# Altium integrated library TI Converter CODEC Voice-Band.IntLib: 99 symbols (part 5 of 7)
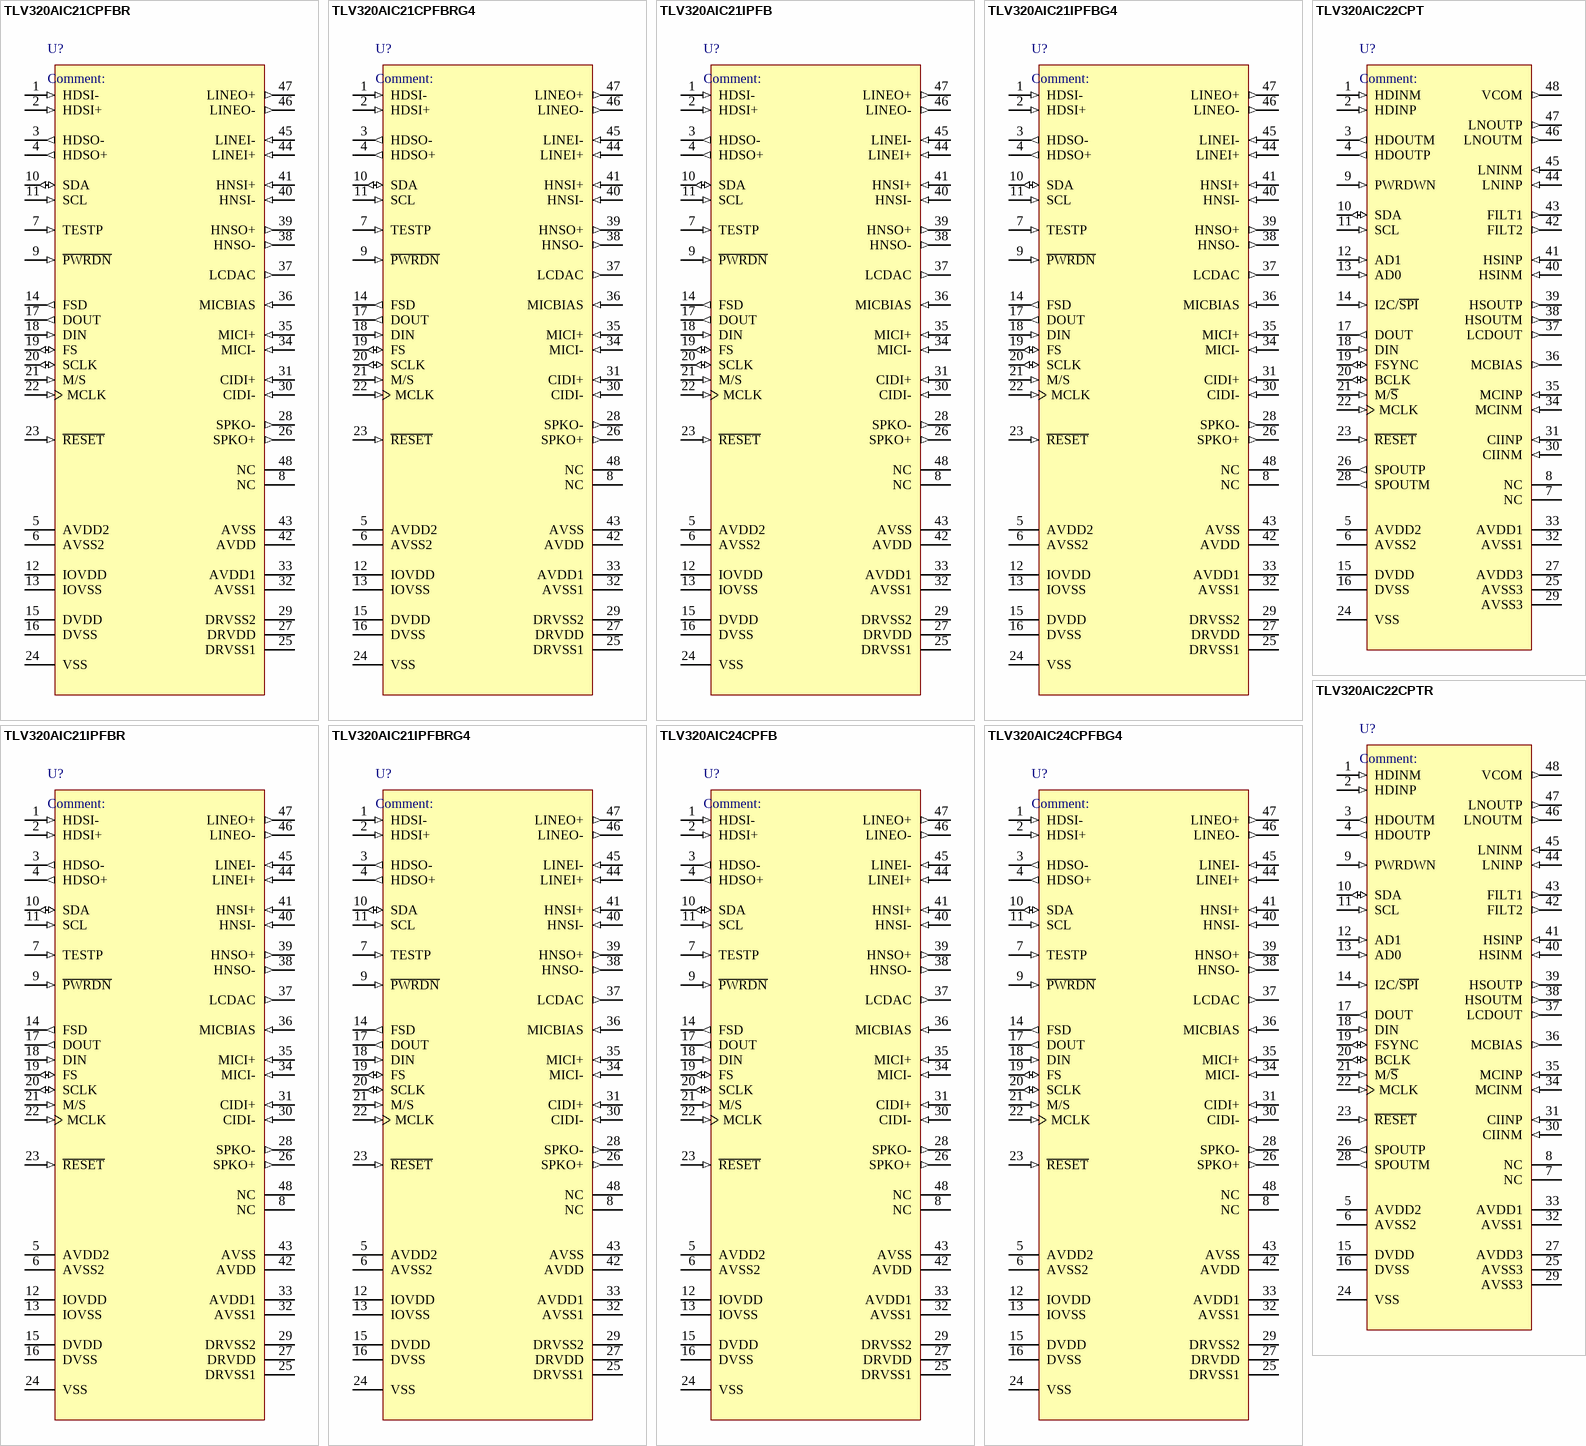
[diagram p13: symbols TLV320AIC21CPFBR to TLV320AIC24CPFBG4]

## TLV320AIC22CPT
designator U?
Dual Voice Over Internet Protocol (VoIP) CODEC, 48-Pin ?LQFP; Note: It is recommended that PCB design utilize separate analog & digital power supplies and separate analog & digital ground planes.; Note: Due to possible crosstalk, keep LNOUT & LNIN signals separated. Do not route LNOUT signals parallel to LNIN signals.; Published: 16-Dec-2005; LatestRevisionDate: 13-Apr-2006; LatestRevisionNote: IPC-7351 Footprint Added.; DatasheetVersion: 24-Jun-2005; PackageVersion: May-1997; PackageReference: PT48; Publisher: Altium Limited; PackageDescription: 48-Pin Thin Quad Flat Pack 0.5 mm Pitch; ComponentLink1Description: Manufacturer Link; ComponentLink1URL: http://www.ti.com/; ComponentLink2Description: Datasheet; ComponentLink2URL: http://focus.ti.com/lit/ds/symlink/tlv320aic22c.pdf
footprint PT48_N (Thin QFP, 48-Leads, Body 7x7mm, Pitch 0.5mm, IPC Medium Density)
footprint PT48_L (Thin QFP, 48-Leads, Body 7x7mm, Pitch 0.5mm, IPC High Density)
footprint PT48_M (Thin QFP, 48-Leads, Body 7x7mm, Pitch 0.5mm, IPC Low Density)
pins: 1 HDINM (in) "Headset amplifier analog inverting input.", 2 HDINP (in) "Headset amplifier analog noninverting input.", 3 HDOUTM (out) "Inverting headset output.", 4 HDOUTP (out) "Noninverting headset output.", 5 AVDD2 (power) "Analog power supply. Connect to AVDD1.", 6 AVSS2 (power) "Analog ground. Connect to AVSS1.", 7 NC "Reserved. Leave unconnected.", 8 NC "Reserved. Leave unconnected.", 9 PWRDWN (in) "Power down.", 10 SDA (io) "Bidirectional control data I/O line for the I2C interface.", 11 SCL (in) "Serial control interface clock for I2C interface & used to clock control bits into and out of the device through the SDA terminal.", 12 AD1 (in) "Address.", 13 AD0 (in) "Address.", 14 I2C/~{SPI} (in) "I2C/serial-port interface select.", 15 DVDD (power) "Digital power supply.", 16 DVSS (power) "Digital ground.", 17 DOUT (out) "Data output.", 18 DIN (in) "Data input.", 19 FSYNC (io) "Frame synchronization. FSYNC indicates the beginning of a frame and the start of time slot 0.", 20 BCLK (io) "Bit clock. BCLK clocks serial data into DIN and out of DOUT.", 21 M/~{S} (in) "Master/slave select input.", 22 MCLK (in) "Master clock input.", 23 ~{RESE}~{T} (in) "Codec device reset.", 24 VSS (power) "Internal substrate connection.", 25 AVSS3 (power) "Analog ground for 8 Ohm speaker driver.", 26 SPOUTP (out) "Inverting analog output from 8 Ohm speaker amplifier", 27 AVDD3 (power) "Analog power supply for 8 Ohm speaker driver.", 28 SPOUTM (out) "Noninverting analog output from 8 Ohm speaker amplifier", 29 AVSS3 (power) "Analog ground for 8 Ohm speaker driver.", 30 CIINM (in) "Caller ID amplifier analog inverting input", 31 CIINP (in) "Caller ID amplifier analog noninverting input", 32 AVSS1 (power) "Analog ground. Connect to AVSS2.", 33 AVDD1 (power) "Analog power supply. Connect to AVDD2.", 34 MCINM (in) "Microphone amplifier analog inverting input.", 35 MCINP (in) "Microphone amplifier analog noninverting input.", 36 MCBIAS (out) "MCBIAS provides a bias voltage and current to operate Electret microphones.", 37 LCDOUT (out) "4-bit DAC output voltage.", 38 HSOUTM (out) "Inverting handset output.", 39 HSOUTP (out) "Noninverting handset output.", 40 HSINM (in) "Handset amplifier analog inverting input.", 41 HSINP (in) "Handset amplifier analog noninverting input.", 42 FILT2 (out) "Reference filter node. FILT1 and FILT2 provide decoupling of the reference voltage. This reference is 0 V.", 43 FILT1 (out) "Reference filter node. FILT1 and FILT2 provide decoupling of the reference voltage. This reference is 2.25 V.", 44 LNINP (in) "Line-port amplifier analog noninverting input.", 45 LNINM (in) "Line-port amplifier analog inverting input.", 46 LNOUTM (out) "Inverting line-port output.", 47 LNOUTP (out) "Noninverting line-port output.", 48 VCOM (out) "VCOM provides a reference voltage of 1.5 V."

## TLV320AIC22CPTR
designator U?
Dual Voice Over Internet Protocol (VoIP) CODEC, 48-Pin ?LQFP; Note: It is recommended that PCB design utilize separate analog & digital power supplies and separate analog & digital ground planes.; Note: Due to possible crosstalk, keep LNOUT & LNIN signals separated. Do not route LNOUT signals parallel to LNIN signals.; Published: 16-Dec-2005; LatestRevisionDate: 13-Apr-2006; LatestRevisionNote: IPC-7351 Footprint Added.; DatasheetVersion: 24-Jun-2005; PackageVersion: May-1997; PackageReference: PT48; Publisher: Altium Limited; PackageDescription: 48-Pin Thin Quad Flat Pack 0.5 mm Pitch; ComponentLink1Description: Manufacturer Link; ComponentLink1URL: http://www.ti.com/; ComponentLink2Description: Datasheet; ComponentLink2URL: http://focus.ti.com/lit/ds/symlink/tlv320aic22c.pdf
footprint PT48_N (Thin QFP, 48-Leads, Body 7x7mm, Pitch 0.5mm, IPC Medium Density)
footprint PT48_L (Thin QFP, 48-Leads, Body 7x7mm, Pitch 0.5mm, IPC High Density)
footprint PT48_M (Thin QFP, 48-Leads, Body 7x7mm, Pitch 0.5mm, IPC Low Density)
pins: 1 HDINM (in) "Headset amplifier analog inverting input.", 2 HDINP (in) "Headset amplifier analog noninverting input.", 3 HDOUTM (out) "Inverting headset output.", 4 HDOUTP (out) "Noninverting headset output.", 5 AVDD2 (power) "Analog power supply. Connect to AVDD1.", 6 AVSS2 (power) "Analog ground. Connect to AVSS1.", 7 NC "Reserved. Leave unconnected.", 8 NC "Reserved. Leave unconnected.", 9 PWRDWN (in) "Power down.", 10 SDA (io) "Bidirectional control data I/O line for the I2C interface.", 11 SCL (in) "Serial control interface clock for I2C interface & used to clock control bits into and out of the device through the SDA terminal.", 12 AD1 (in) "Address.", 13 AD0 (in) "Address.", 14 I2C/~{SPI} (in) "I2C/serial-port interface select.", 15 DVDD (power) "Digital power supply.", 16 DVSS (power) "Digital ground.", 17 DOUT (out) "Data output.", 18 DIN (in) "Data input.", 19 FSYNC (io) "Frame synchronization. FSYNC indicates the beginning of a frame and the start of time slot 0.", 20 BCLK (io) "Bit clock. BCLK clocks serial data into DIN and out of DOUT.", 21 M/~{S} (in) "Master/slave select input.", 22 MCLK (in) "Master clock input.", 23 ~{RESE}~{T} (in) "Codec device reset.", 24 VSS (power) "Internal substrate connection.", 25 AVSS3 (power) "Analog ground for 8 Ohm speaker driver.", 26 SPOUTP (out) "Inverting analog output from 8 Ohm speaker amplifier", 27 AVDD3 (power) "Analog power supply for 8 Ohm speaker driver.", 28 SPOUTM (out) "Noninverting analog output from 8 Ohm speaker amplifier", 29 AVSS3 (power) "Analog ground for 8 Ohm speaker driver.", 30 CIINM (in) "Caller ID amplifier analog inverting input", 31 CIINP (in) "Caller ID amplifier analog noninverting input", 32 AVSS1 (power) "Analog ground. Connect to AVSS2.", 33 AVDD1 (power) "Analog power supply. Connect to AVDD2.", 34 MCINM (in) "Microphone amplifier analog inverting input.", 35 MCINP (in) "Microphone amplifier analog noninverting input.", 36 MCBIAS (out) "MCBIAS provides a bias voltage and current to operate Electret microphones.", 37 LCDOUT (out) "4-bit DAC output voltage.", 38 HSOUTM (out) "Inverting handset output.", 39 HSOUTP (out) "Noninverting handset output.", 40 HSINM (in) "Handset amplifier analog inverting input.", 41 HSINP (in) "Handset amplifier analog noninverting input.", 42 FILT2 (out) "Reference filter node. FILT1 and FILT2 provide decoupling of the reference voltage. This reference is 0 V.", 43 FILT1 (out) "Reference filter node. FILT1 and FILT2 provide decoupling of the reference voltage. This reference is 2.25 V.", 44 LNINP (in) "Line-port amplifier analog noninverting input.", 45 LNINM (in) "Line-port amplifier analog inverting input.", 46 LNOUTM (out) "Inverting line-port output.", 47 LNOUTP (out) "Noninverting line-port output.", 48 VCOM (out) "VCOM provides a reference voltage of 1.5 V."

## TLV320AIC24CPFB
designator U?
Low-Power, Highly-Integrated, Programmable 16-Bit, 26-KSPS Dual-Channel CODEC, 48-Pin TQFP, Commerical Grade; Published: 16-Dec-2005; LatestRevisionDate: 13-Apr-2006; LatestRevisionNote: IPC-7351 Footprint Added.; DatasheetVersion: 13-Sep-2005; PackageVersion: Jan-1998; PackageReference: PFB48; Publisher: Altium Limited; PackageDescription: 48-Pin Thin Plastic Quad Flat Pack 0.5 mm Pitch; Code_JEDEC: MS-026; ComponentLink1Description: Manufacturer Link; ComponentLink1URL: http://www.ti.com/; ComponentLink2Description: Datasheet; ComponentLink2URL: http://focus.ti.com/lit/ds/symlink/tlv320aic24.pdf
footprint PFB48_N (Thin QFP, 48-Leads, Body 7x7mm, Pitch 0.5mm, IPC Medium Density)
footprint PFB48_L (Thin QFP, 48-Leads, Body 7x7mm, Pitch 0.5mm, IPC High Density)
footprint PFB48_M (Thin QFP, 48-Leads, Body 7x7mm, Pitch 0.5mm, IPC Low Density)
pins: 1 HDSI- (in) "Head-set input. The Head-set input can be treated similar to the Line-input pins", 2 HDSI+ (in) "Head-set input. The Head-set input can be treated similar to the Line-input pins", 3 HDSO- (out) "150W output", 4 HDSO+ (out) "150W output", 5 AVDD2 (power) "Analog power supply", 6 AVSS2 (power) "Analog ground", 7 TESTP (in) "Test pin. Should be connected to digital ground.", 8 NC "Not connected", 9 ~{PWRDN} (in) "Power down", 10 SDA (io) "I2C/S2C data", 11 SCL (in) "I2C/S2C clock", 12 IOVDD (power) "I/O power supply", 13 IOVSS (power) "I/O ground", 14 FSD (out) "Frame sync delayed", 15 DVDD (power) "Digital supply (1.8 V)", 16 DVSS (power) "Digital ground", 17 DOUT (out) "Data OUT", 18 DIN (in) "Data IN", 19 FS (io) "Frame sync", 20 SCLK (io) "Serial clock", 21 M/S (in) "Master slave select applied to CODEC1 only. CODEC2 is always a slave.", 22 MCLK (in) "Master clock", 23 ~{RESET} (in) "Reset", 24 VSS (power) "Device ground. Typically this should be connected to the Analog Ground.", 25 DRVSS1 (power) "Driver ground", 26 SPKO+ (out) "8W output", 27 DRVDD (power) "Driver supply", 28 SPKO- (out) "8W output", 29 DRVSS2 (power) "Driver ground", 30 CIDI- (in) "Caller-ID input. The Caller-ID input can be treated similar to the Line-input pins", 31 CIDI+ (in) "Caller-ID input. The Caller-ID input can be treated similar to the Line-input pins", 32 AVSS1 (power) "Analog ground", 33 AVDD1 (power) "Analog supply", 34 MICI- (in) "Microphone input", 35 MICI+ (in) "Microphone input", 36 MICBIAS (in) "Microphone bias", 37 LCDAC (out) "6-Bit DAC output may be used to drive LCDAC", 38 HNSO- (out) "150-W output", 39 HNSO+ (out) "150-W output", 40 HNSI- (in) "Hand-set input. The Hand-set input can be treated similar to the Line-input pins", 41 HNSI+ (in) "Hand-set input. The Hand-set input can be treated similar to the Line-input pins", 42 AVDD (power) "Analog supply", 43 AVSS (power) "Analog ground", 44 LINEI+ (in) "Line input", 45 LINEI- (in) "Line input", 46 LINEO- (out) "600W output", 47 LINEO+ (out) "600W output", 48 NC "Not connected"

## TLV320AIC24CPFBG4
designator U?
Low-Power, Highly-Integrated, Programmable 16-Bit, 26-KSPS Dual-Channel CODEC, 48-Pin TQFP, Commerical Grade; Published: 16-Dec-2005; LatestRevisionDate: 13-Apr-2006; LatestRevisionNote: IPC-7351 Footprint Added.; DatasheetVersion: 13-Sep-2005; PackageVersion: Jan-1998; PackageReference: PFB48; Publisher: Altium Limited; PackageDescription: 48-Pin Thin Plastic Quad Flat Pack 0.5 mm Pitch; Code_JEDEC: MS-026; ComponentLink1Description: Manufacturer Link; ComponentLink1URL: http://www.ti.com/; ComponentLink2Description: Datasheet; ComponentLink2URL: http://focus.ti.com/lit/ds/symlink/tlv320aic24.pdf
footprint PFB48_N (Thin QFP, 48-Leads, Body 7x7mm, Pitch 0.5mm, IPC Medium Density)
footprint PFB48_L (Thin QFP, 48-Leads, Body 7x7mm, Pitch 0.5mm, IPC High Density)
footprint PFB48_M (Thin QFP, 48-Leads, Body 7x7mm, Pitch 0.5mm, IPC Low Density)
pins: 1 HDSI- (in) "Head-set input. The Head-set input can be treated similar to the Line-input pins", 2 HDSI+ (in) "Head-set input. The Head-set input can be treated similar to the Line-input pins", 3 HDSO- (out) "150W output", 4 HDSO+ (out) "150W output", 5 AVDD2 (power) "Analog power supply", 6 AVSS2 (power) "Analog ground", 7 TESTP (in) "Test pin. Should be connected to digital ground.", 8 NC "Not connected", 9 ~{PWRDN} (in) "Power down", 10 SDA (io) "I2C/S2C data", 11 SCL (in) "I2C/S2C clock", 12 IOVDD (power) "I/O power supply", 13 IOVSS (power) "I/O ground", 14 FSD (out) "Frame sync delayed", 15 DVDD (power) "Digital supply (1.8 V)", 16 DVSS (power) "Digital ground", 17 DOUT (out) "Data OUT", 18 DIN (in) "Data IN", 19 FS (io) "Frame sync", 20 SCLK (io) "Serial clock", 21 M/S (in) "Master slave select applied to CODEC1 only. CODEC2 is always a slave.", 22 MCLK (in) "Master clock", 23 ~{RESET} (in) "Reset", 24 VSS (power) "Device ground. Typically this should be connected to the Analog Ground.", 25 DRVSS1 (power) "Driver ground", 26 SPKO+ (out) "8W output", 27 DRVDD (power) "Driver supply", 28 SPKO- (out) "8W output", 29 DRVSS2 (power) "Driver ground", 30 CIDI- (in) "Caller-ID input. The Caller-ID input can be treated similar to the Line-input pins", 31 CIDI+ (in) "Caller-ID input. The Caller-ID input can be treated similar to the Line-input pins", 32 AVSS1 (power) "Analog ground", 33 AVDD1 (power) "Analog supply", 34 MICI- (in) "Microphone input", 35 MICI+ (in) "Microphone input", 36 MICBIAS (in) "Microphone bias", 37 LCDAC (out) "6-Bit DAC output may be used to drive LCDAC", 38 HNSO- (out) "150-W output", 39 HNSO+ (out) "150-W output", 40 HNSI- (in) "Hand-set input. The Hand-set input can be treated similar to the Line-input pins", 41 HNSI+ (in) "Hand-set input. The Hand-set input can be treated similar to the Line-input pins", 42 AVDD (power) "Analog supply", 43 AVSS (power) "Analog ground", 44 LINEI+ (in) "Line input", 45 LINEI- (in) "Line input", 46 LINEO- (out) "600W output", 47 LINEO+ (out) "600W output", 48 NC "Not connected"

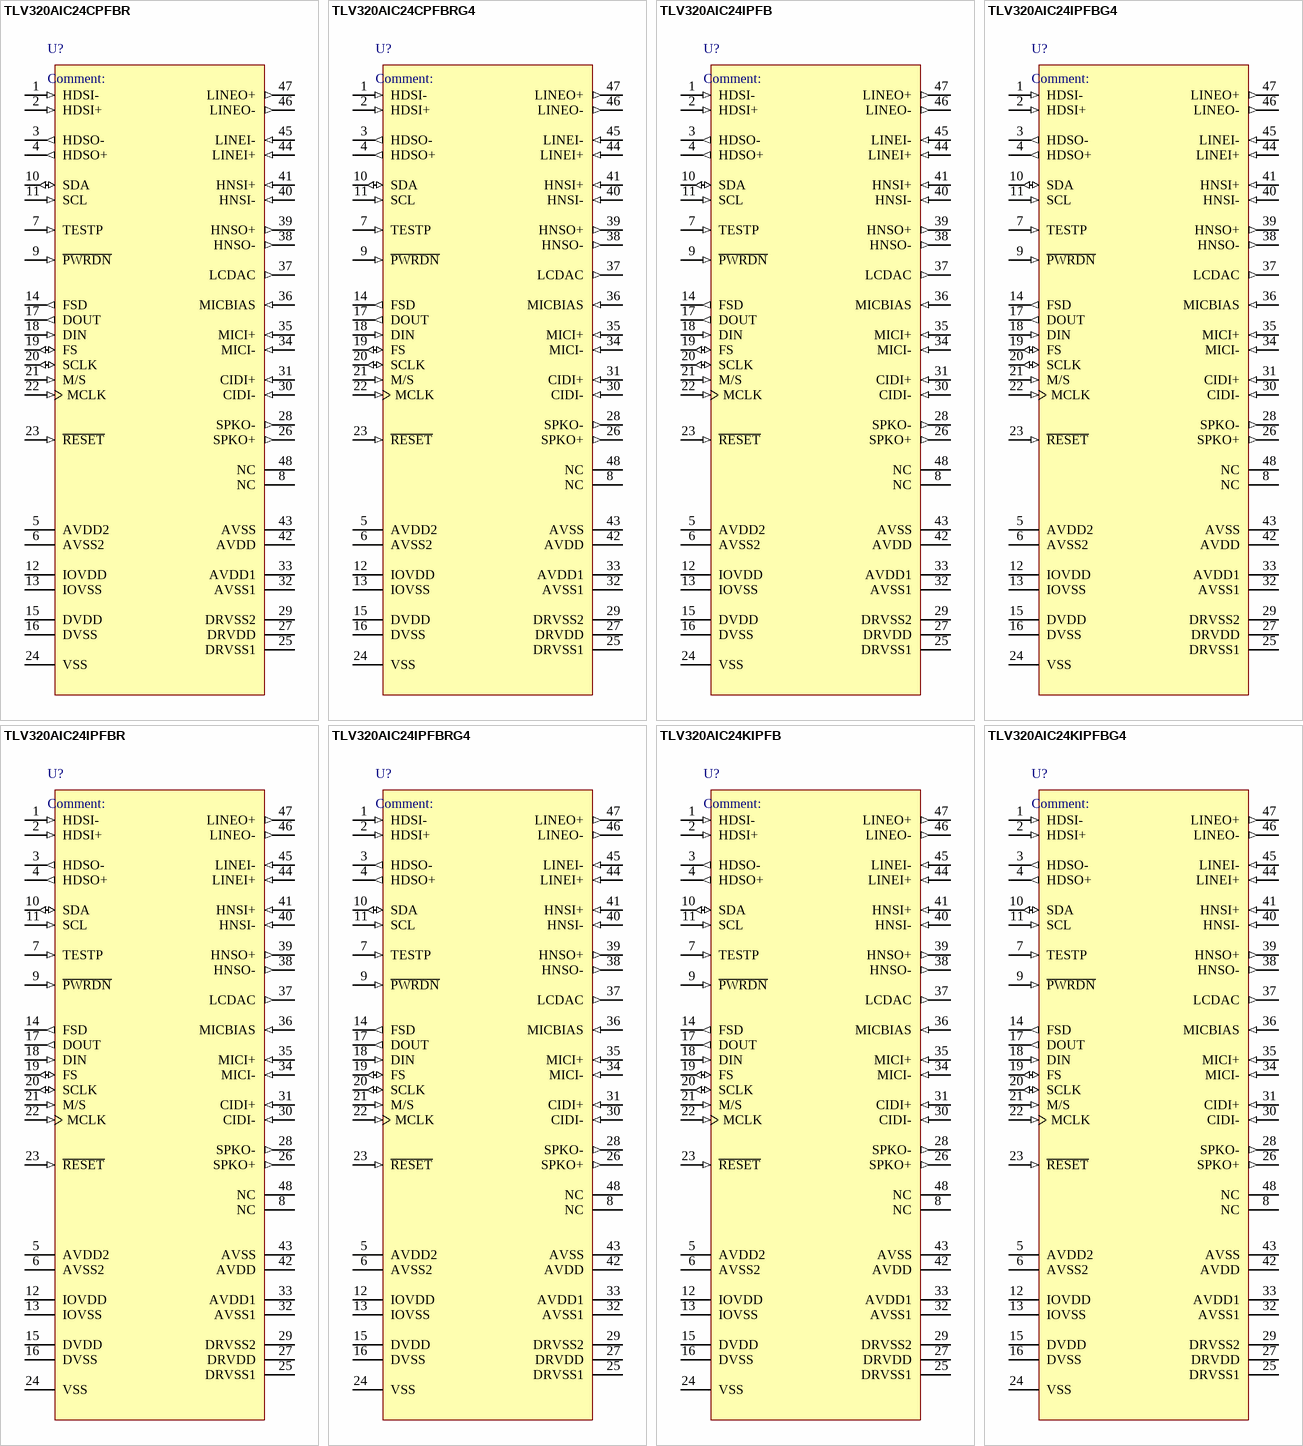
[diagram p6: symbols TLV320AIC24CPFBR to TLV320AIC24KIPFBG4]

## TLV320AIC24CPFBR
designator U?
Low-Power, Highly-Integrated, Programmable 16-Bit, 26-KSPS Dual-Channel CODEC, 48-Pin TQFP, Commerical Grade; Published: 16-Dec-2005; LatestRevisionDate: 13-Apr-2006; LatestRevisionNote: IPC-7351 Footprint Added.; DatasheetVersion: 13-Sep-2005; PackageVersion: Jan-1998; PackageReference: PFB48; Publisher: Altium Limited; PackageDescription: 48-Pin Thin Plastic Quad Flat Pack 0.5 mm Pitch; Code_JEDEC: MS-026; ComponentLink1Description: Manufacturer Link; ComponentLink1URL: http://www.ti.com/; ComponentLink2Description: Datasheet; ComponentLink2URL: http://focus.ti.com/lit/ds/symlink/tlv320aic24.pdf
footprint PFB48_N (Thin QFP, 48-Leads, Body 7x7mm, Pitch 0.5mm, IPC Medium Density)
footprint PFB48_L (Thin QFP, 48-Leads, Body 7x7mm, Pitch 0.5mm, IPC High Density)
footprint PFB48_M (Thin QFP, 48-Leads, Body 7x7mm, Pitch 0.5mm, IPC Low Density)
pins: 1 HDSI- (in) "Head-set input. The Head-set input can be treated similar to the Line-input pins", 2 HDSI+ (in) "Head-set input. The Head-set input can be treated similar to the Line-input pins", 3 HDSO- (out) "150W output", 4 HDSO+ (out) "150W output", 5 AVDD2 (power) "Analog power supply", 6 AVSS2 (power) "Analog ground", 7 TESTP (in) "Test pin. Should be connected to digital ground.", 8 NC "Not connected", 9 ~{PWRDN} (in) "Power down", 10 SDA (io) "I2C/S2C data", 11 SCL (in) "I2C/S2C clock", 12 IOVDD (power) "I/O power supply", 13 IOVSS (power) "I/O ground", 14 FSD (out) "Frame sync delayed", 15 DVDD (power) "Digital supply (1.8 V)", 16 DVSS (power) "Digital ground", 17 DOUT (out) "Data OUT", 18 DIN (in) "Data IN", 19 FS (io) "Frame sync", 20 SCLK (io) "Serial clock", 21 M/S (in) "Master slave select applied to CODEC1 only. CODEC2 is always a slave.", 22 MCLK (in) "Master clock", 23 ~{RESET} (in) "Reset", 24 VSS (power) "Device ground. Typically this should be connected to the Analog Ground.", 25 DRVSS1 (power) "Driver ground", 26 SPKO+ (out) "8W output", 27 DRVDD (power) "Driver supply", 28 SPKO- (out) "8W output", 29 DRVSS2 (power) "Driver ground", 30 CIDI- (in) "Caller-ID input. The Caller-ID input can be treated similar to the Line-input pins", 31 CIDI+ (in) "Caller-ID input. The Caller-ID input can be treated similar to the Line-input pins", 32 AVSS1 (power) "Analog ground", 33 AVDD1 (power) "Analog supply", 34 MICI- (in) "Microphone input", 35 MICI+ (in) "Microphone input", 36 MICBIAS (in) "Microphone bias", 37 LCDAC (out) "6-Bit DAC output may be used to drive LCDAC", 38 HNSO- (out) "150-W output", 39 HNSO+ (out) "150-W output", 40 HNSI- (in) "Hand-set input. The Hand-set input can be treated similar to the Line-input pins", 41 HNSI+ (in) "Hand-set input. The Hand-set input can be treated similar to the Line-input pins", 42 AVDD (power) "Analog supply", 43 AVSS (power) "Analog ground", 44 LINEI+ (in) "Line input", 45 LINEI- (in) "Line input", 46 LINEO- (out) "600W output", 47 LINEO+ (out) "600W output", 48 NC "Not connected"

## TLV320AIC24CPFBRG4
designator U?
Low-Power, Highly-Integrated, Programmable 16-Bit, 26-KSPS Dual-Channel CODEC, 48-Pin TQFP, Commerical Grade; Published: 16-Dec-2005; LatestRevisionDate: 13-Apr-2006; LatestRevisionNote: IPC-7351 Footprint Added.; DatasheetVersion: 13-Sep-2005; PackageVersion: Jan-1998; PackageReference: PFB48; Publisher: Altium Limited; PackageDescription: 48-Pin Thin Plastic Quad Flat Pack 0.5 mm Pitch; Code_JEDEC: MS-026; ComponentLink1Description: Manufacturer Link; ComponentLink1URL: http://www.ti.com/; ComponentLink2Description: Datasheet; ComponentLink2URL: http://focus.ti.com/lit/ds/symlink/tlv320aic24.pdf
footprint PFB48_N (Thin QFP, 48-Leads, Body 7x7mm, Pitch 0.5mm, IPC Medium Density)
footprint PFB48_L (Thin QFP, 48-Leads, Body 7x7mm, Pitch 0.5mm, IPC High Density)
footprint PFB48_M (Thin QFP, 48-Leads, Body 7x7mm, Pitch 0.5mm, IPC Low Density)
pins: 1 HDSI- (in) "Head-set input. The Head-set input can be treated similar to the Line-input pins", 2 HDSI+ (in) "Head-set input. The Head-set input can be treated similar to the Line-input pins", 3 HDSO- (out) "150W output", 4 HDSO+ (out) "150W output", 5 AVDD2 (power) "Analog power supply", 6 AVSS2 (power) "Analog ground", 7 TESTP (in) "Test pin. Should be connected to digital ground.", 8 NC "Not connected", 9 ~{PWRDN} (in) "Power down", 10 SDA (io) "I2C/S2C data", 11 SCL (in) "I2C/S2C clock", 12 IOVDD (power) "I/O power supply", 13 IOVSS (power) "I/O ground", 14 FSD (out) "Frame sync delayed", 15 DVDD (power) "Digital supply (1.8 V)", 16 DVSS (power) "Digital ground", 17 DOUT (out) "Data OUT", 18 DIN (in) "Data IN", 19 FS (io) "Frame sync", 20 SCLK (io) "Serial clock", 21 M/S (in) "Master slave select applied to CODEC1 only. CODEC2 is always a slave.", 22 MCLK (in) "Master clock", 23 ~{RESET} (in) "Reset", 24 VSS (power) "Device ground. Typically this should be connected to the Analog Ground.", 25 DRVSS1 (power) "Driver ground", 26 SPKO+ (out) "8W output", 27 DRVDD (power) "Driver supply", 28 SPKO- (out) "8W output", 29 DRVSS2 (power) "Driver ground", 30 CIDI- (in) "Caller-ID input. The Caller-ID input can be treated similar to the Line-input pins", 31 CIDI+ (in) "Caller-ID input. The Caller-ID input can be treated similar to the Line-input pins", 32 AVSS1 (power) "Analog ground", 33 AVDD1 (power) "Analog supply", 34 MICI- (in) "Microphone input", 35 MICI+ (in) "Microphone input", 36 MICBIAS (in) "Microphone bias", 37 LCDAC (out) "6-Bit DAC output may be used to drive LCDAC", 38 HNSO- (out) "150-W output", 39 HNSO+ (out) "150-W output", 40 HNSI- (in) "Hand-set input. The Hand-set input can be treated similar to the Line-input pins", 41 HNSI+ (in) "Hand-set input. The Hand-set input can be treated similar to the Line-input pins", 42 AVDD (power) "Analog supply", 43 AVSS (power) "Analog ground", 44 LINEI+ (in) "Line input", 45 LINEI- (in) "Line input", 46 LINEO- (out) "600W output", 47 LINEO+ (out) "600W output", 48 NC "Not connected"

## TLV320AIC24IPFB
designator U?
Low-Power, Highly-Integrated, Programmable 16-Bit, 26-KSPS Dual-Channel CODEC, 48-Pin TQFP, Industrial Grade; Published: 16-Dec-2005; LatestRevisionDate: 13-Apr-2006; LatestRevisionNote: IPC-7351 Footprint Added.; DatasheetVersion: 13-Sep-2005; PackageVersion: Jan-1998; PackageReference: PFB48; Publisher: Altium Limited; PackageDescription: 48-Pin Thin Plastic Quad Flat Pack 0.5 mm Pitch; Code_JEDEC: MS-026; ComponentLink1Description: Manufacturer Link; ComponentLink1URL: http://www.ti.com/; ComponentLink2Description: Datasheet; ComponentLink2URL: http://focus.ti.com/lit/ds/symlink/tlv320aic24.pdf
footprint PFB48_N (Thin QFP, 48-Leads, Body 7x7mm, Pitch 0.5mm, IPC Medium Density)
footprint PFB48_L (Thin QFP, 48-Leads, Body 7x7mm, Pitch 0.5mm, IPC High Density)
footprint PFB48_M (Thin QFP, 48-Leads, Body 7x7mm, Pitch 0.5mm, IPC Low Density)
pins: 1 HDSI- (in) "Head-set input. The Head-set input can be treated similar to the Line-input pins", 2 HDSI+ (in) "Head-set input. The Head-set input can be treated similar to the Line-input pins", 3 HDSO- (out) "150W output", 4 HDSO+ (out) "150W output", 5 AVDD2 (power) "Analog power supply", 6 AVSS2 (power) "Analog ground", 7 TESTP (in) "Test pin. Should be connected to digital ground.", 8 NC "Not connected", 9 ~{PWRDN} (in) "Power down", 10 SDA (io) "I2C/S2C data", 11 SCL (in) "I2C/S2C clock", 12 IOVDD (power) "I/O power supply", 13 IOVSS (power) "I/O ground", 14 FSD (out) "Frame sync delayed", 15 DVDD (power) "Digital supply (1.8 V)", 16 DVSS (power) "Digital ground", 17 DOUT (out) "Data OUT", 18 DIN (in) "Data IN", 19 FS (io) "Frame sync", 20 SCLK (io) "Serial clock", 21 M/S (in) "Master slave select applied to CODEC1 only. CODEC2 is always a slave.", 22 MCLK (in) "Master clock", 23 ~{RESET} (in) "Reset", 24 VSS (power) "Device ground. Typically this should be connected to the Analog Ground.", 25 DRVSS1 (power) "Driver ground", 26 SPKO+ (out) "8W output", 27 DRVDD (power) "Driver supply", 28 SPKO- (out) "8W output", 29 DRVSS2 (power) "Driver ground", 30 CIDI- (in) "Caller-ID input. The Caller-ID input can be treated similar to the Line-input pins", 31 CIDI+ (in) "Caller-ID input. The Caller-ID input can be treated similar to the Line-input pins", 32 AVSS1 (power) "Analog ground", 33 AVDD1 (power) "Analog supply", 34 MICI- (in) "Microphone input", 35 MICI+ (in) "Microphone input", 36 MICBIAS (in) "Microphone bias", 37 LCDAC (out) "6-Bit DAC output may be used to drive LCDAC", 38 HNSO- (out) "150-W output", 39 HNSO+ (out) "150-W output", 40 HNSI- (in) "Hand-set input. The Hand-set input can be treated similar to the Line-input pins", 41 HNSI+ (in) "Hand-set input. The Hand-set input can be treated similar to the Line-input pins", 42 AVDD (power) "Analog supply", 43 AVSS (power) "Analog ground", 44 LINEI+ (in) "Line input", 45 LINEI- (in) "Line input", 46 LINEO- (out) "600W output", 47 LINEO+ (out) "600W output", 48 NC "Not connected"

## TLV320AIC24IPFBG4
designator U?
Low-Power, Highly-Integrated, Programmable 16-Bit, 26-KSPS Dual-Channel CODEC, 48-Pin TQFP, Industrial Grade; Published: 16-Dec-2005; LatestRevisionDate: 13-Apr-2006; LatestRevisionNote: IPC-7351 Footprint Added.; DatasheetVersion: 13-Sep-2005; PackageVersion: Jan-1998; PackageReference: PFB48; Publisher: Altium Limited; PackageDescription: 48-Pin Thin Plastic Quad Flat Pack 0.5 mm Pitch; Code_JEDEC: MS-026; ComponentLink1Description: Manufacturer Link; ComponentLink1URL: http://www.ti.com/; ComponentLink2Description: Datasheet; ComponentLink2URL: http://focus.ti.com/lit/ds/symlink/tlv320aic24.pdf
footprint PFB48_N (Thin QFP, 48-Leads, Body 7x7mm, Pitch 0.5mm, IPC Medium Density)
footprint PFB48_L (Thin QFP, 48-Leads, Body 7x7mm, Pitch 0.5mm, IPC High Density)
footprint PFB48_M (Thin QFP, 48-Leads, Body 7x7mm, Pitch 0.5mm, IPC Low Density)
pins: 1 HDSI- (in) "Head-set input. The Head-set input can be treated similar to the Line-input pins", 2 HDSI+ (in) "Head-set input. The Head-set input can be treated similar to the Line-input pins", 3 HDSO- (out) "150W output", 4 HDSO+ (out) "150W output", 5 AVDD2 (power) "Analog power supply", 6 AVSS2 (power) "Analog ground", 7 TESTP (in) "Test pin. Should be connected to digital ground.", 8 NC "Not connected", 9 ~{PWRDN} (in) "Power down", 10 SDA (io) "I2C/S2C data", 11 SCL (in) "I2C/S2C clock", 12 IOVDD (power) "I/O power supply", 13 IOVSS (power) "I/O ground", 14 FSD (out) "Frame sync delayed", 15 DVDD (power) "Digital supply (1.8 V)", 16 DVSS (power) "Digital ground", 17 DOUT (out) "Data OUT", 18 DIN (in) "Data IN", 19 FS (io) "Frame sync", 20 SCLK (io) "Serial clock", 21 M/S (in) "Master slave select applied to CODEC1 only. CODEC2 is always a slave.", 22 MCLK (in) "Master clock", 23 ~{RESET} (in) "Reset", 24 VSS (power) "Device ground. Typically this should be connected to the Analog Ground.", 25 DRVSS1 (power) "Driver ground", 26 SPKO+ (out) "8W output", 27 DRVDD (power) "Driver supply", 28 SPKO- (out) "8W output", 29 DRVSS2 (power) "Driver ground", 30 CIDI- (in) "Caller-ID input. The Caller-ID input can be treated similar to the Line-input pins", 31 CIDI+ (in) "Caller-ID input. The Caller-ID input can be treated similar to the Line-input pins", 32 AVSS1 (power) "Analog ground", 33 AVDD1 (power) "Analog supply", 34 MICI- (in) "Microphone input", 35 MICI+ (in) "Microphone input", 36 MICBIAS (in) "Microphone bias", 37 LCDAC (out) "6-Bit DAC output may be used to drive LCDAC", 38 HNSO- (out) "150-W output", 39 HNSO+ (out) "150-W output", 40 HNSI- (in) "Hand-set input. The Hand-set input can be treated similar to the Line-input pins", 41 HNSI+ (in) "Hand-set input. The Hand-set input can be treated similar to the Line-input pins", 42 AVDD (power) "Analog supply", 43 AVSS (power) "Analog ground", 44 LINEI+ (in) "Line input", 45 LINEI- (in) "Line input", 46 LINEO- (out) "600W output", 47 LINEO+ (out) "600W output", 48 NC "Not connected"

## TLV320AIC24IPFBR
designator U?
Low-Power, Highly-Integrated, Programmable 16-Bit, 26-KSPS Dual-Channel CODEC, 48-Pin TQFP, Industrial Grade; Published: 16-Dec-2005; LatestRevisionDate: 13-Apr-2006; LatestRevisionNote: IPC-7351 Footprint Added.; DatasheetVersion: 13-Sep-2005; PackageVersion: Jan-1998; PackageReference: PFB48; Publisher: Altium Limited; PackageDescription: 48-Pin Thin Plastic Quad Flat Pack 0.5 mm Pitch; Code_JEDEC: MS-026; ComponentLink1Description: Manufacturer Link; ComponentLink1URL: http://www.ti.com/; ComponentLink2Description: Datasheet; ComponentLink2URL: http://focus.ti.com/lit/ds/symlink/tlv320aic24.pdf
footprint PFB48_N (Thin QFP, 48-Leads, Body 7x7mm, Pitch 0.5mm, IPC Medium Density)
footprint PFB48_L (Thin QFP, 48-Leads, Body 7x7mm, Pitch 0.5mm, IPC High Density)
footprint PFB48_M (Thin QFP, 48-Leads, Body 7x7mm, Pitch 0.5mm, IPC Low Density)
pins: 1 HDSI- (in) "Head-set input. The Head-set input can be treated similar to the Line-input pins", 2 HDSI+ (in) "Head-set input. The Head-set input can be treated similar to the Line-input pins", 3 HDSO- (out) "150W output", 4 HDSO+ (out) "150W output", 5 AVDD2 (power) "Analog power supply", 6 AVSS2 (power) "Analog ground", 7 TESTP (in) "Test pin. Should be connected to digital ground.", 8 NC "Not connected", 9 ~{PWRDN} (in) "Power down", 10 SDA (io) "I2C/S2C data", 11 SCL (in) "I2C/S2C clock", 12 IOVDD (power) "I/O power supply", 13 IOVSS (power) "I/O ground", 14 FSD (out) "Frame sync delayed", 15 DVDD (power) "Digital supply (1.8 V)", 16 DVSS (power) "Digital ground", 17 DOUT (out) "Data OUT", 18 DIN (in) "Data IN", 19 FS (io) "Frame sync", 20 SCLK (io) "Serial clock", 21 M/S (in) "Master slave select applied to CODEC1 only. CODEC2 is always a slave.", 22 MCLK (in) "Master clock", 23 ~{RESET} (in) "Reset", 24 VSS (power) "Device ground. Typically this should be connected to the Analog Ground.", 25 DRVSS1 (power) "Driver ground", 26 SPKO+ (out) "8W output", 27 DRVDD (power) "Driver supply", 28 SPKO- (out) "8W output", 29 DRVSS2 (power) "Driver ground", 30 CIDI- (in) "Caller-ID input. The Caller-ID input can be treated similar to the Line-input pins", 31 CIDI+ (in) "Caller-ID input. The Caller-ID input can be treated similar to the Line-input pins", 32 AVSS1 (power) "Analog ground", 33 AVDD1 (power) "Analog supply", 34 MICI- (in) "Microphone input", 35 MICI+ (in) "Microphone input", 36 MICBIAS (in) "Microphone bias", 37 LCDAC (out) "6-Bit DAC output may be used to drive LCDAC", 38 HNSO- (out) "150-W output", 39 HNSO+ (out) "150-W output", 40 HNSI- (in) "Hand-set input. The Hand-set input can be treated similar to the Line-input pins", 41 HNSI+ (in) "Hand-set input. The Hand-set input can be treated similar to the Line-input pins", 42 AVDD (power) "Analog supply", 43 AVSS (power) "Analog ground", 44 LINEI+ (in) "Line input", 45 LINEI- (in) "Line input", 46 LINEO- (out) "600W output", 47 LINEO+ (out) "600W output", 48 NC "Not connected"

## TLV320AIC24IPFBRG4
designator U?
Low-Power, Highly-Integrated, Programmable 16-Bit, 26-KSPS Dual-Channel CODEC, 48-Pin TQFP, Industrial Grade; Published: 16-Dec-2005; LatestRevisionDate: 13-Apr-2006; LatestRevisionNote: IPC-7351 Footprint Added.; DatasheetVersion: 13-Sep-2005; PackageVersion: Jan-1998; PackageReference: PFB48; Publisher: Altium Limited; PackageDescription: 48-Pin Thin Plastic Quad Flat Pack 0.5 mm Pitch; Code_JEDEC: MS-026; ComponentLink1Description: Manufacturer Link; ComponentLink1URL: http://www.ti.com/; ComponentLink2Description: Datasheet; ComponentLink2URL: http://focus.ti.com/lit/ds/symlink/tlv320aic24.pdf
footprint PFB48_N (Thin QFP, 48-Leads, Body 7x7mm, Pitch 0.5mm, IPC Medium Density)
footprint PFB48_L (Thin QFP, 48-Leads, Body 7x7mm, Pitch 0.5mm, IPC High Density)
footprint PFB48_M (Thin QFP, 48-Leads, Body 7x7mm, Pitch 0.5mm, IPC Low Density)
pins: 1 HDSI- (in) "Head-set input. The Head-set input can be treated similar to the Line-input pins", 2 HDSI+ (in) "Head-set input. The Head-set input can be treated similar to the Line-input pins", 3 HDSO- (out) "150W output", 4 HDSO+ (out) "150W output", 5 AVDD2 (power) "Analog power supply", 6 AVSS2 (power) "Analog ground", 7 TESTP (in) "Test pin. Should be connected to digital ground.", 8 NC "Not connected", 9 ~{PWRDN} (in) "Power down", 10 SDA (io) "I2C/S2C data", 11 SCL (in) "I2C/S2C clock", 12 IOVDD (power) "I/O power supply", 13 IOVSS (power) "I/O ground", 14 FSD (out) "Frame sync delayed", 15 DVDD (power) "Digital supply (1.8 V)", 16 DVSS (power) "Digital ground", 17 DOUT (out) "Data OUT", 18 DIN (in) "Data IN", 19 FS (io) "Frame sync", 20 SCLK (io) "Serial clock", 21 M/S (in) "Master slave select applied to CODEC1 only. CODEC2 is always a slave.", 22 MCLK (in) "Master clock", 23 ~{RESET} (in) "Reset", 24 VSS (power) "Device ground. Typically this should be connected to the Analog Ground.", 25 DRVSS1 (power) "Driver ground", 26 SPKO+ (out) "8W output", 27 DRVDD (power) "Driver supply", 28 SPKO- (out) "8W output", 29 DRVSS2 (power) "Driver ground", 30 CIDI- (in) "Caller-ID input. The Caller-ID input can be treated similar to the Line-input pins", 31 CIDI+ (in) "Caller-ID input. The Caller-ID input can be treated similar to the Line-input pins", 32 AVSS1 (power) "Analog ground", 33 AVDD1 (power) "Analog supply", 34 MICI- (in) "Microphone input", 35 MICI+ (in) "Microphone input", 36 MICBIAS (in) "Microphone bias", 37 LCDAC (out) "6-Bit DAC output may be used to drive LCDAC", 38 HNSO- (out) "150-W output", 39 HNSO+ (out) "150-W output", 40 HNSI- (in) "Hand-set input. The Hand-set input can be treated similar to the Line-input pins", 41 HNSI+ (in) "Hand-set input. The Hand-set input can be treated similar to the Line-input pins", 42 AVDD (power) "Analog supply", 43 AVSS (power) "Analog ground", 44 LINEI+ (in) "Line input", 45 LINEI- (in) "Line input", 46 LINEO- (out) "600W output", 47 LINEO+ (out) "600W output", 48 NC "Not connected"

## TLV320AIC24KIPFB
designator U?
Low-Power, Highly-Integrated, Programmable 16-Bit, 26-KSPS Dual-Channel CODEC, 48-Pin TQFP, Industrial Grade; Published: 16-Dec-2005; LatestRevisionDate: 13-Apr-2006; LatestRevisionNote: IPC-7351 Footprint Added.; DatasheetVersion: 13-Sep-2005; PackageVersion: Jan-1998; PackageReference: PFB48; Publisher: Altium Limited; PackageDescription: 48-Pin Thin Plastic Quad Flat Pack 0.5 mm Pitch; Code_JEDEC: MS-026; ComponentLink1Description: Manufacturer Link; ComponentLink1URL: http://www.ti.com/; ComponentLink2Description: Datasheet; ComponentLink2URL: http://focus.ti.com/lit/ds/symlink/tlv320aic24k.pdf
footprint PFB48_N (Thin QFP, 48-Leads, Body 7x7mm, Pitch 0.5mm, IPC Medium Density)
footprint PFB48_L (Thin QFP, 48-Leads, Body 7x7mm, Pitch 0.5mm, IPC High Density)
footprint PFB48_M (Thin QFP, 48-Leads, Body 7x7mm, Pitch 0.5mm, IPC Low Density)
pins: 1 HDSI- (in) "Head-set input. The Head-set input can be treated similar to the Line-input pins", 2 HDSI+ (in) "Head-set input. The Head-set input can be treated similar to the Line-input pins", 3 HDSO- (out) "150W output", 4 HDSO+ (out) "150W output", 5 AVDD2 (power) "Analog power supply", 6 AVSS2 (power) "Analog ground", 7 TESTP (in) "Test pin. Should be connected to digital ground.", 8 NC "Not connected", 9 ~{PWRDN} (in) "Power down", 10 SDA (io) "I2C/S2C data", 11 SCL (in) "I2C/S2C clock", 12 IOVDD (power) "I/O power supply", 13 IOVSS (power) "I/O ground", 14 FSD (out) "Frame sync delayed", 15 DVDD (power) "Digital supply (1.8 V)", 16 DVSS (power) "Digital ground", 17 DOUT (out) "Data OUT", 18 DIN (in) "Data IN", 19 FS (io) "Frame sync", 20 SCLK (io) "Serial clock", 21 M/S (in) "Master slave select applied to CODEC1 only. CODEC2 is always a slave.", 22 MCLK (in) "Master clock", 23 ~{RESET} (in) "Reset", 24 VSS (power) "Device ground. Typically this should be connected to the Analog Ground.", 25 DRVSS1 (power) "Driver ground", 26 SPKO+ (out) "8W output", 27 DRVDD (power) "Driver supply", 28 SPKO- (out) "8W output", 29 DRVSS2 (power) "Driver ground", 30 CIDI- (in) "Caller-ID input. The Caller-ID input can be treated similar to the Line-input pins", 31 CIDI+ (in) "Caller-ID input. The Caller-ID input can be treated similar to the Line-input pins", 32 AVSS1 (power) "Analog ground", 33 AVDD1 (power) "Analog supply", 34 MICI- (in) "Microphone input", 35 MICI+ (in) "Microphone input", 36 MICBIAS (in) "Microphone bias", 37 LCDAC (out) "6-Bit DAC output may be used to drive LCDAC", 38 HNSO- (out) "150-W output", 39 HNSO+ (out) "150-W output", 40 HNSI- (in) "Hand-set input. The Hand-set input can be treated similar to the Line-input pins", 41 HNSI+ (in) "Hand-set input. The Hand-set input can be treated similar to the Line-input pins", 42 AVDD (power) "Analog supply", 43 AVSS (power) "Analog ground", 44 LINEI+ (in) "Line input", 45 LINEI- (in) "Line input", 46 LINEO- (out) "600W output", 47 LINEO+ (out) "600W output", 48 NC "Not connected"

## TLV320AIC24KIPFBG4
designator U?
Low-Power, Highly-Integrated, Programmable 16-Bit, 26-KSPS Dual-Channel CODEC, 48-Pin TQFP, Industrial Grade; Published: 16-Dec-2005; LatestRevisionDate: 13-Apr-2006; LatestRevisionNote: IPC-7351 Footprint Added.; DatasheetVersion: 13-Sep-2005; PackageVersion: Jan-1998; PackageReference: PFB48; Publisher: Altium Limited; PackageDescription: 48-Pin Thin Plastic Quad Flat Pack 0.5 mm Pitch; Code_JEDEC: MS-026; ComponentLink1Description: Manufacturer Link; ComponentLink1URL: http://www.ti.com/; ComponentLink2Description: Datasheet; ComponentLink2URL: http://focus.ti.com/lit/ds/symlink/tlv320aic24k.pdf
footprint PFB48_N (Thin QFP, 48-Leads, Body 7x7mm, Pitch 0.5mm, IPC Medium Density)
footprint PFB48_L (Thin QFP, 48-Leads, Body 7x7mm, Pitch 0.5mm, IPC High Density)
footprint PFB48_M (Thin QFP, 48-Leads, Body 7x7mm, Pitch 0.5mm, IPC Low Density)
pins: 1 HDSI- (in) "Head-set input. The Head-set input can be treated similar to the Line-input pins", 2 HDSI+ (in) "Head-set input. The Head-set input can be treated similar to the Line-input pins", 3 HDSO- (out) "150W output", 4 HDSO+ (out) "150W output", 5 AVDD2 (power) "Analog power supply", 6 AVSS2 (power) "Analog ground", 7 TESTP (in) "Test pin. Should be connected to digital ground.", 8 NC "Not connected", 9 ~{PWRDN} (in) "Power down", 10 SDA (io) "I2C/S2C data", 11 SCL (in) "I2C/S2C clock", 12 IOVDD (power) "I/O power supply", 13 IOVSS (power) "I/O ground", 14 FSD (out) "Frame sync delayed", 15 DVDD (power) "Digital supply (1.8 V)", 16 DVSS (power) "Digital ground", 17 DOUT (out) "Data OUT", 18 DIN (in) "Data IN", 19 FS (io) "Frame sync", 20 SCLK (io) "Serial clock", 21 M/S (in) "Master slave select applied to CODEC1 only. CODEC2 is always a slave.", 22 MCLK (in) "Master clock", 23 ~{RESET} (in) "Reset", 24 VSS (power) "Device ground. Typically this should be connected to the Analog Ground.", 25 DRVSS1 (power) "Driver ground", 26 SPKO+ (out) "8W output", 27 DRVDD (power) "Driver supply", 28 SPKO- (out) "8W output", 29 DRVSS2 (power) "Driver ground", 30 CIDI- (in) "Caller-ID input. The Caller-ID input can be treated similar to the Line-input pins", 31 CIDI+ (in) "Caller-ID input. The Caller-ID input can be treated similar to the Line-input pins", 32 AVSS1 (power) "Analog ground", 33 AVDD1 (power) "Analog supply", 34 MICI- (in) "Microphone input", 35 MICI+ (in) "Microphone input", 36 MICBIAS (in) "Microphone bias", 37 LCDAC (out) "6-Bit DAC output may be used to drive LCDAC", 38 HNSO- (out) "150-W output", 39 HNSO+ (out) "150-W output", 40 HNSI- (in) "Hand-set input. The Hand-set input can be treated similar to the Line-input pins", 41 HNSI+ (in) "Hand-set input. The Hand-set input can be treated similar to the Line-input pins", 42 AVDD (power) "Analog supply", 43 AVSS (power) "Analog ground", 44 LINEI+ (in) "Line input", 45 LINEI- (in) "Line input", 46 LINEO- (out) "600W output", 47 LINEO+ (out) "600W output", 48 NC "Not connected"

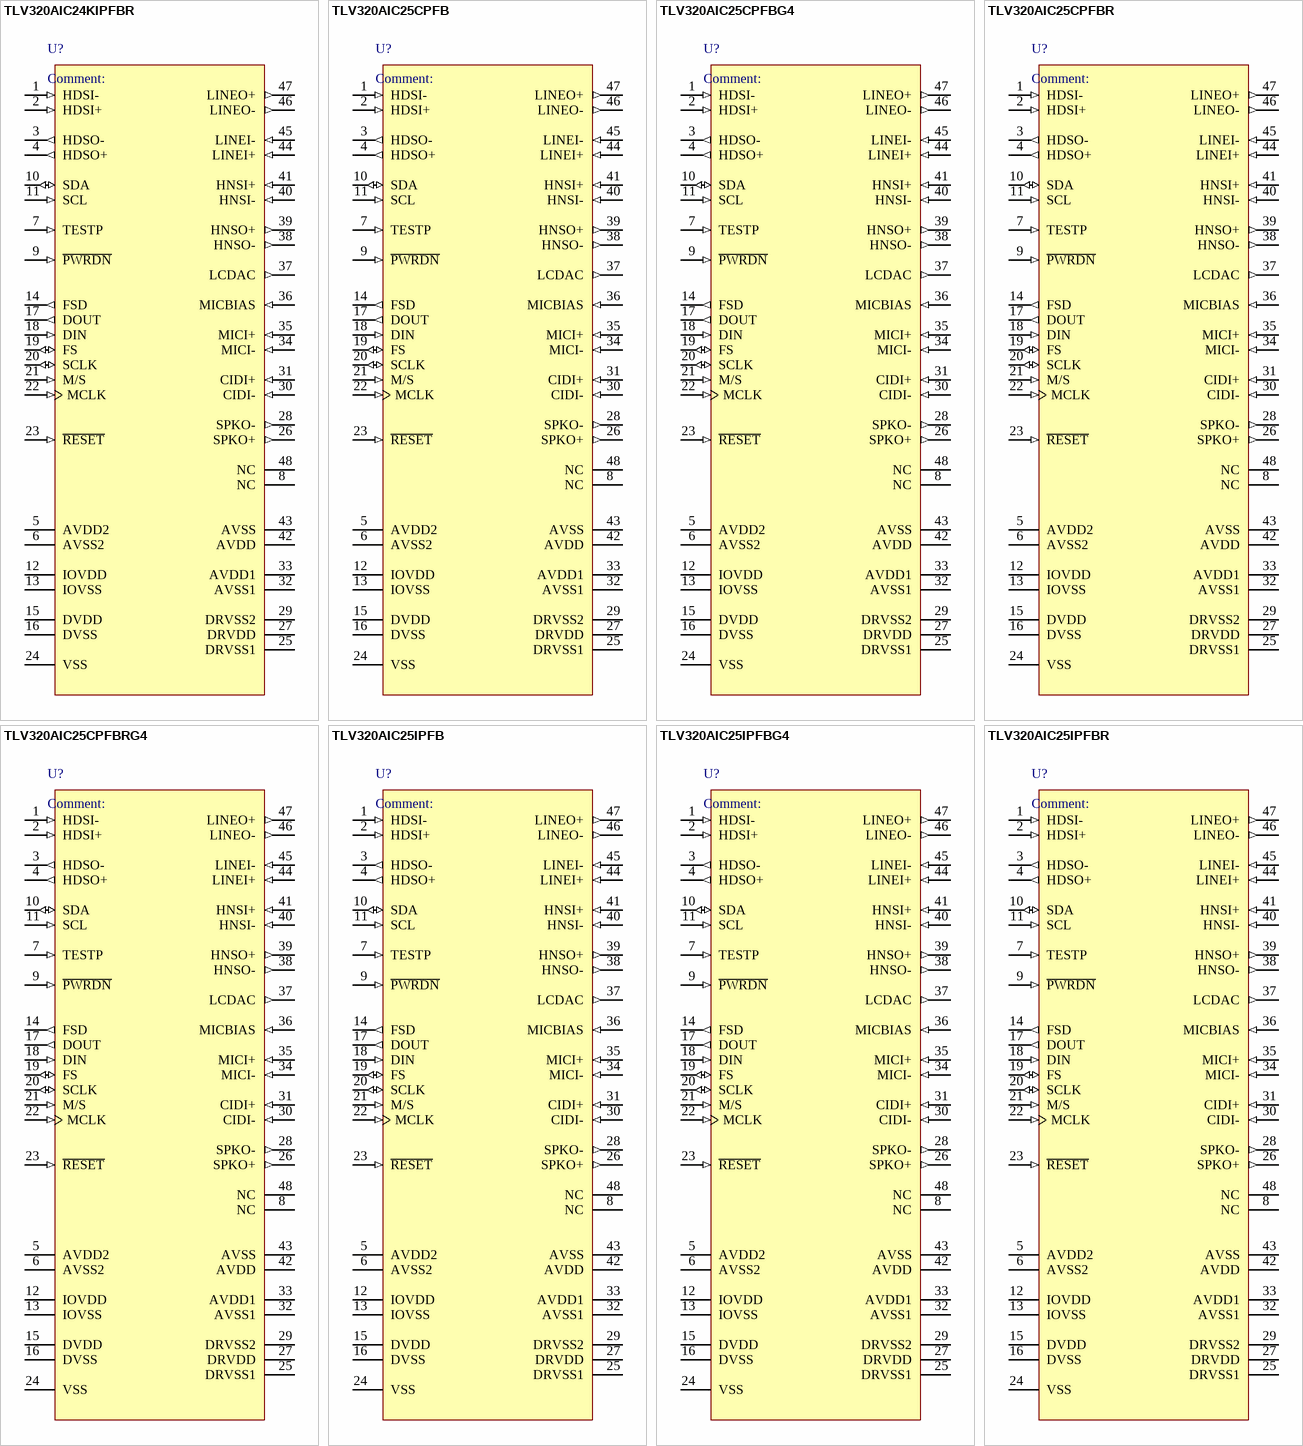
[diagram p7: symbols TLV320AIC24KIPFBR to TLV320AIC25IPFBR]

## TLV320AIC24KIPFBR
designator U?
Low-Power, Highly-Integrated, Programmable 16-Bit, 26-KSPS Dual-Channel CODEC, 48-Pin TQFP, Industrial Grade; Published: 16-Dec-2005; LatestRevisionDate: 13-Apr-2006; LatestRevisionNote: IPC-7351 Footprint Added.; DatasheetVersion: 13-Sep-2005; PackageVersion: Jan-1998; PackageReference: PFB48; Publisher: Altium Limited; PackageDescription: 48-Pin Thin Plastic Quad Flat Pack 0.5 mm Pitch; Code_JEDEC: MS-026; ComponentLink1Description: Manufacturer Link; ComponentLink1URL: http://www.ti.com/; ComponentLink2Description: Datasheet; ComponentLink2URL: http://focus.ti.com/lit/ds/symlink/tlv320aic24k.pdf
footprint PFB48_N (Thin QFP, 48-Leads, Body 7x7mm, Pitch 0.5mm, IPC Medium Density)
footprint PFB48_L (Thin QFP, 48-Leads, Body 7x7mm, Pitch 0.5mm, IPC High Density)
footprint PFB48_M (Thin QFP, 48-Leads, Body 7x7mm, Pitch 0.5mm, IPC Low Density)
pins: 1 HDSI- (in) "Head-set input. The Head-set input can be treated similar to the Line-input pins", 2 HDSI+ (in) "Head-set input. The Head-set input can be treated similar to the Line-input pins", 3 HDSO- (out) "150W output", 4 HDSO+ (out) "150W output", 5 AVDD2 (power) "Analog power supply", 6 AVSS2 (power) "Analog ground", 7 TESTP (in) "Test pin. Should be connected to digital ground.", 8 NC "Not connected", 9 ~{PWRDN} (in) "Power down", 10 SDA (io) "I2C/S2C data", 11 SCL (in) "I2C/S2C clock", 12 IOVDD (power) "I/O power supply", 13 IOVSS (power) "I/O ground", 14 FSD (out) "Frame sync delayed", 15 DVDD (power) "Digital supply (1.8 V)", 16 DVSS (power) "Digital ground", 17 DOUT (out) "Data OUT", 18 DIN (in) "Data IN", 19 FS (io) "Frame sync", 20 SCLK (io) "Serial clock", 21 M/S (in) "Master slave select applied to CODEC1 only. CODEC2 is always a slave.", 22 MCLK (in) "Master clock", 23 ~{RESET} (in) "Reset", 24 VSS (power) "Device ground. Typically this should be connected to the Analog Ground.", 25 DRVSS1 (power) "Driver ground", 26 SPKO+ (out) "8W output", 27 DRVDD (power) "Driver supply", 28 SPKO- (out) "8W output", 29 DRVSS2 (power) "Driver ground", 30 CIDI- (in) "Caller-ID input. The Caller-ID input can be treated similar to the Line-input pins", 31 CIDI+ (in) "Caller-ID input. The Caller-ID input can be treated similar to the Line-input pins", 32 AVSS1 (power) "Analog ground", 33 AVDD1 (power) "Analog supply", 34 MICI- (in) "Microphone input", 35 MICI+ (in) "Microphone input", 36 MICBIAS (in) "Microphone bias", 37 LCDAC (out) "6-Bit DAC output may be used to drive LCDAC", 38 HNSO- (out) "150-W output", 39 HNSO+ (out) "150-W output", 40 HNSI- (in) "Hand-set input. The Hand-set input can be treated similar to the Line-input pins", 41 HNSI+ (in) "Hand-set input. The Hand-set input can be treated similar to the Line-input pins", 42 AVDD (power) "Analog supply", 43 AVSS (power) "Analog ground", 44 LINEI+ (in) "Line input", 45 LINEI- (in) "Line input", 46 LINEO- (out) "600W output", 47 LINEO+ (out) "600W output", 48 NC "Not connected"

## TLV320AIC25CPFB
designator U?
Low-Power, Highly-Integrated, Programmable 16-Bit, 26-KSPS Dual-Channel CODEC, 48-Pin TQFP, Commerical Grade; Published: 16-Dec-2005; LatestRevisionDate: 13-Apr-2006; LatestRevisionNote: IPC-7351 Footprint Added.; DatasheetVersion: 13-Sep-2005; PackageVersion: Jan-1998; PackageReference: PFB48; Publisher: Altium Limited; PackageDescription: 48-Pin Thin Plastic Quad Flat Pack 0.5 mm Pitch; Code_JEDEC: MS-026; ComponentLink1Description: Manufacturer Link; ComponentLink1URL: http://www.ti.com/; ComponentLink2Description: Datasheet; ComponentLink2URL: http://focus.ti.com/lit/ds/symlink/tlv320aic25.pdf
footprint PFB48_N (Thin QFP, 48-Leads, Body 7x7mm, Pitch 0.5mm, IPC Medium Density)
footprint PFB48_L (Thin QFP, 48-Leads, Body 7x7mm, Pitch 0.5mm, IPC High Density)
footprint PFB48_M (Thin QFP, 48-Leads, Body 7x7mm, Pitch 0.5mm, IPC Low Density)
pins: 1 HDSI- (in) "Head-set input. The Head-set input can be treated similar to the Line-input pins", 2 HDSI+ (in) "Head-set input. The Head-set input can be treated similar to the Line-input pins", 3 HDSO- (out) "150W output", 4 HDSO+ (out) "150W output", 5 AVDD2 (power) "Analog power supply", 6 AVSS2 (power) "Analog ground", 7 TESTP (in) "Test pin. Should be connected to digital ground.", 8 NC "Not connected", 9 ~{PWRDN} (in) "Power down", 10 SDA (io) "I2C/S2C data", 11 SCL (in) "I2C/S2C clock", 12 IOVDD (power) "I/O power supply", 13 IOVSS (power) "I/O ground", 14 FSD (out) "Frame sync delayed", 15 DVDD (power) "Digital supply (1.8 V)", 16 DVSS (power) "Digital ground", 17 DOUT (out) "Data OUT", 18 DIN (in) "Data IN", 19 FS (io) "Frame sync", 20 SCLK (io) "Serial clock", 21 M/S (in) "Master slave select applied to CODEC1 only. CODEC2 is always a slave.", 22 MCLK (in) "Master clock", 23 ~{RESET} (in) "Reset", 24 VSS (power) "Device ground. Typically this should be connected to the Analog Ground.", 25 DRVSS1 (power) "Driver ground", 26 SPKO+ (out) "8W output", 27 DRVDD (power) "Driver supply", 28 SPKO- (out) "8W output", 29 DRVSS2 (power) "Driver ground", 30 CIDI- (in) "Caller-ID input. The Caller-ID input can be treated similar to the Line-input pins", 31 CIDI+ (in) "Caller-ID input. The Caller-ID input can be treated similar to the Line-input pins", 32 AVSS1 (power) "Analog ground", 33 AVDD1 (power) "Analog supply", 34 MICI- (in) "Microphone input", 35 MICI+ (in) "Microphone input", 36 MICBIAS (in) "Microphone bias", 37 LCDAC (out) "6-Bit DAC output may be used to drive LCDAC", 38 HNSO- (out) "150-W output", 39 HNSO+ (out) "150-W output", 40 HNSI- (in) "Hand-set input. The Hand-set input can be treated similar to the Line-input pins", 41 HNSI+ (in) "Hand-set input. The Hand-set input can be treated similar to the Line-input pins", 42 AVDD (power) "Analog supply", 43 AVSS (power) "Analog ground", 44 LINEI+ (in) "Line input", 45 LINEI- (in) "Line input", 46 LINEO- (out) "600W output", 47 LINEO+ (out) "600W output", 48 NC "Not connected"

## TLV320AIC25CPFBG4
designator U?
Low-Power, Highly-Integrated, Programmable 16-Bit, 26-KSPS Dual-Channel CODEC, 48-Pin TQFP, Commerical Grade; Published: 16-Dec-2005; LatestRevisionDate: 13-Apr-2006; LatestRevisionNote: IPC-7351 Footprint Added.; DatasheetVersion: 13-Sep-2005; PackageVersion: Jan-1998; PackageReference: PFB48; Publisher: Altium Limited; PackageDescription: 48-Pin Thin Plastic Quad Flat Pack 0.5 mm Pitch; Code_JEDEC: MS-026; ComponentLink1Description: Manufacturer Link; ComponentLink1URL: http://www.ti.com/; ComponentLink2Description: Datasheet; ComponentLink2URL: http://focus.ti.com/lit/ds/symlink/tlv320aic25.pdf
footprint PFB48_N (Thin QFP, 48-Leads, Body 7x7mm, Pitch 0.5mm, IPC Medium Density)
footprint PFB48_L (Thin QFP, 48-Leads, Body 7x7mm, Pitch 0.5mm, IPC High Density)
footprint PFB48_M (Thin QFP, 48-Leads, Body 7x7mm, Pitch 0.5mm, IPC Low Density)
pins: 1 HDSI- (in) "Head-set input. The Head-set input can be treated similar to the Line-input pins", 2 HDSI+ (in) "Head-set input. The Head-set input can be treated similar to the Line-input pins", 3 HDSO- (out) "150W output", 4 HDSO+ (out) "150W output", 5 AVDD2 (power) "Analog power supply", 6 AVSS2 (power) "Analog ground", 7 TESTP (in) "Test pin. Should be connected to digital ground.", 8 NC "Not connected", 9 ~{PWRDN} (in) "Power down", 10 SDA (io) "I2C/S2C data", 11 SCL (in) "I2C/S2C clock", 12 IOVDD (power) "I/O power supply", 13 IOVSS (power) "I/O ground", 14 FSD (out) "Frame sync delayed", 15 DVDD (power) "Digital supply (1.8 V)", 16 DVSS (power) "Digital ground", 17 DOUT (out) "Data OUT", 18 DIN (in) "Data IN", 19 FS (io) "Frame sync", 20 SCLK (io) "Serial clock", 21 M/S (in) "Master slave select applied to CODEC1 only. CODEC2 is always a slave.", 22 MCLK (in) "Master clock", 23 ~{RESET} (in) "Reset", 24 VSS (power) "Device ground. Typically this should be connected to the Analog Ground.", 25 DRVSS1 (power) "Driver ground", 26 SPKO+ (out) "8W output", 27 DRVDD (power) "Driver supply", 28 SPKO- (out) "8W output", 29 DRVSS2 (power) "Driver ground", 30 CIDI- (in) "Caller-ID input. The Caller-ID input can be treated similar to the Line-input pins", 31 CIDI+ (in) "Caller-ID input. The Caller-ID input can be treated similar to the Line-input pins", 32 AVSS1 (power) "Analog ground", 33 AVDD1 (power) "Analog supply", 34 MICI- (in) "Microphone input", 35 MICI+ (in) "Microphone input", 36 MICBIAS (in) "Microphone bias", 37 LCDAC (out) "6-Bit DAC output may be used to drive LCDAC", 38 HNSO- (out) "150-W output", 39 HNSO+ (out) "150-W output", 40 HNSI- (in) "Hand-set input. The Hand-set input can be treated similar to the Line-input pins", 41 HNSI+ (in) "Hand-set input. The Hand-set input can be treated similar to the Line-input pins", 42 AVDD (power) "Analog supply", 43 AVSS (power) "Analog ground", 44 LINEI+ (in) "Line input", 45 LINEI- (in) "Line input", 46 LINEO- (out) "600W output", 47 LINEO+ (out) "600W output", 48 NC "Not connected"

## TLV320AIC25CPFBR
designator U?
Low-Power, Highly-Integrated, Programmable 16-Bit, 26-KSPS Dual-Channel CODEC, 48-Pin TQFP, Commerical Grade; Published: 16-Dec-2005; LatestRevisionDate: 13-Apr-2006; LatestRevisionNote: IPC-7351 Footprint Added.; DatasheetVersion: 13-Sep-2005; PackageVersion: Jan-1998; PackageReference: PFB48; Publisher: Altium Limited; PackageDescription: 48-Pin Thin Plastic Quad Flat Pack 0.5 mm Pitch; Code_JEDEC: MS-026; ComponentLink1Description: Manufacturer Link; ComponentLink1URL: http://www.ti.com/; ComponentLink2Description: Datasheet; ComponentLink2URL: http://focus.ti.com/lit/ds/symlink/tlv320aic25.pdf
footprint PFB48_N (Thin QFP, 48-Leads, Body 7x7mm, Pitch 0.5mm, IPC Medium Density)
footprint PFB48_L (Thin QFP, 48-Leads, Body 7x7mm, Pitch 0.5mm, IPC High Density)
footprint PFB48_M (Thin QFP, 48-Leads, Body 7x7mm, Pitch 0.5mm, IPC Low Density)
pins: 1 HDSI- (in) "Head-set input. The Head-set input can be treated similar to the Line-input pins", 2 HDSI+ (in) "Head-set input. The Head-set input can be treated similar to the Line-input pins", 3 HDSO- (out) "150W output", 4 HDSO+ (out) "150W output", 5 AVDD2 (power) "Analog power supply", 6 AVSS2 (power) "Analog ground", 7 TESTP (in) "Test pin. Should be connected to digital ground.", 8 NC "Not connected", 9 ~{PWRDN} (in) "Power down", 10 SDA (io) "I2C/S2C data", 11 SCL (in) "I2C/S2C clock", 12 IOVDD (power) "I/O power supply", 13 IOVSS (power) "I/O ground", 14 FSD (out) "Frame sync delayed", 15 DVDD (power) "Digital supply (1.8 V)", 16 DVSS (power) "Digital ground", 17 DOUT (out) "Data OUT", 18 DIN (in) "Data IN", 19 FS (io) "Frame sync", 20 SCLK (io) "Serial clock", 21 M/S (in) "Master slave select applied to CODEC1 only. CODEC2 is always a slave.", 22 MCLK (in) "Master clock", 23 ~{RESET} (in) "Reset", 24 VSS (power) "Device ground. Typically this should be connected to the Analog Ground.", 25 DRVSS1 (power) "Driver ground", 26 SPKO+ (out) "8W output", 27 DRVDD (power) "Driver supply", 28 SPKO- (out) "8W output", 29 DRVSS2 (power) "Driver ground", 30 CIDI- (in) "Caller-ID input. The Caller-ID input can be treated similar to the Line-input pins", 31 CIDI+ (in) "Caller-ID input. The Caller-ID input can be treated similar to the Line-input pins", 32 AVSS1 (power) "Analog ground", 33 AVDD1 (power) "Analog supply", 34 MICI- (in) "Microphone input", 35 MICI+ (in) "Microphone input", 36 MICBIAS (in) "Microphone bias", 37 LCDAC (out) "6-Bit DAC output may be used to drive LCDAC", 38 HNSO- (out) "150-W output", 39 HNSO+ (out) "150-W output", 40 HNSI- (in) "Hand-set input. The Hand-set input can be treated similar to the Line-input pins", 41 HNSI+ (in) "Hand-set input. The Hand-set input can be treated similar to the Line-input pins", 42 AVDD (power) "Analog supply", 43 AVSS (power) "Analog ground", 44 LINEI+ (in) "Line input", 45 LINEI- (in) "Line input", 46 LINEO- (out) "600W output", 47 LINEO+ (out) "600W output", 48 NC "Not connected"